# EAGLE library part EC2-12TNU (library hollx047_3)
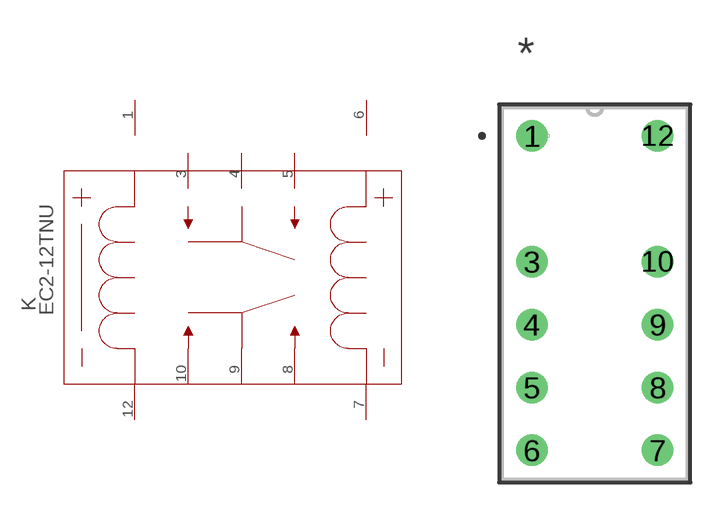
[diagram p0: symbol with the pads of EC2TNU; footprint EC2TNU]

Designator prefix K

## EC2-12TNU (MANUFACTURER_PART_NUMBER: EC212TNU; VENDOR: KEMET)  [EC2TNU]
1  1  pas
3  2  pas
4  3  pas
5  4  pas
6  5  pas
7  6  pas
8  7  pas
9  8  pas
10  9  pas
12  10  pas

## Footprint EC2TNU (pad centres in mm)
drill 0.762 pad 1.27: 1 -5.08,12.725; 3 -5.08,7.645; 4 -5.08,5.105; 5 -5.08,2.565; 6 -5.08,0.025; 7 0,0.025; 8 0,2.565; 9 0,5.105; 10 0,7.645; 12 0,12.725